# Altium footprint library Button.PcbLib: 1 footprints
Each footprint in its own frame and in the unit in brackets; x right, y up, seen from the top. Pads: shape width x height; smd on the part's side, far side on the other; paste and mask are expansions set on the pad; w line width, h text height; cw(c..) or ccw(c..) is an arc to the next point about the centre after c.
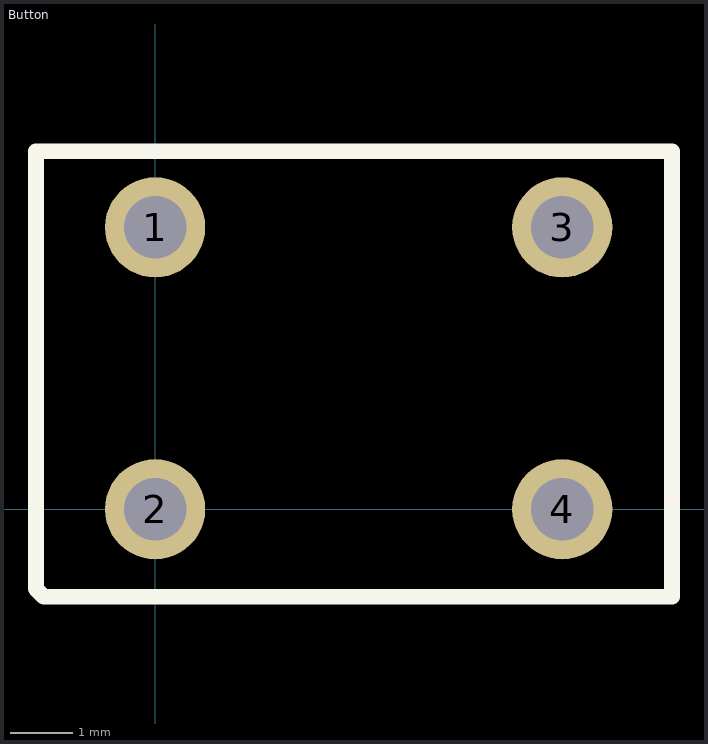
[diagram p0: the footprint, top view; thin cyan lines are the x and y axes]

## Button [mm]
pads (4):
  round 1.6 hole 1: 1(0,4.5) 2(0,0) 3(6.5,4.5) 4(6.5,0)
Top Overlay:
  lines w0.254: -1.905,-1.27 -1.778,-1.397 8.255,-1.397 8.255,5.715 -1.905,5.715 -1.905,-1.27